# Altium footprint library KSZ8081RNAIA-TR.PcbLib: 3 footprints
Each footprint in its own frame and in the unit in brackets; x right, y up, seen from the top. Pads: shape width x height; smd on the part's side, far side on the other; paste and mask are expansions set on the pad; w line width, h text height; cw(c..) or ccw(c..) is an arc to the next point about the centre after c.
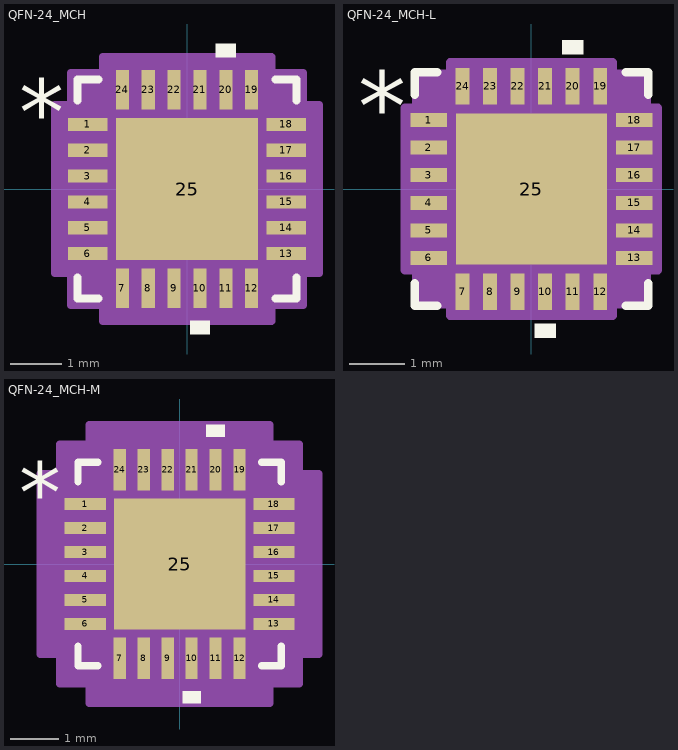
[diagram p0: the footprints below, top view; thin cyan lines are the x and y axes]

## QFN-24_MCH [mil]
pads (25):
  rect 30x10 smd paste+0 mask+0: 1(-75.5,49.21) 2(-75.5,29.53) 3(-75.5,9.84) 4(-75.5,-9.84) 5(-75.5,-29.53) 6(-75.5,-49.21) 13(75.5,-49.21) 14(75.5,-29.53) 15(75.5,-9.84) 16(75.5,9.84) 17(75.5,29.53) 18(75.5,49.21)
  rect 10x30 smd paste+0 mask+0: 7(-49.21,-75.5) 8(-29.53,-75.5) 9(-9.84,-75.5) 10(9.84,-75.5) 11(29.53,-75.5) 12(49.21,-75.5) 19(49.21,75.5) 20(29.53,75.5) 21(9.84,75.5) 22(-9.84,75.5) 23(-29.53,75.5) 24(-49.21,75.5)
  rect 108x108 smd paste-54 mask+0: 25(0,0)
Top Overlay:
  region: 17.34,-100.5 2.34,-100.5 2.34,-110.5 17.34,-110.5
  region: 37.03,100.5 22.03,100.5 22.03,110.5 37.03,110.5
  lines w6: -83.5,-67.31 -83.5,-83.5 -67.31,-83.5 ; -83.5,67.31 -83.5,83.5 -67.31,83.5 ; 67.31,-83.5 83.5,-83.5 83.5,-67.31 ; 67.31,83.5 83.5,83.5 83.5,67.31
  text "*" at -128,34.06 h50
Top Paste:
  region: -3.94,50.06 -50.06,50.06 -50.06,3.94 -3.94,3.94
  region: -3.94,-3.94 -50.06,-3.94 -50.06,-50.06 -3.94,-50.06
  region: 50.06,50.06 3.94,50.06 3.94,3.94 50.06,3.94
  region: 50.06,-3.94 3.94,-3.94 3.94,-50.06 50.06,-50.06
Mechanical 13:
  lines w1: -78.5,28.5 -28.5,78.5 ; -78.5,-78.5 78.5,-78.5 ; -78.5,-78.5 -78.5,78.5 ; -78.5,-78.5 -78.5,-78.5 ; -78.5,-55.21 -78.5,-43.21 ; -78.5,-55.21 -78.5,-43.21 ; -78.5,-55.21 -78.5,-55.21 ; -78.5,-43.21 -78.5,-43.21 ; -78.5,-35.53 -78.5,-23.53 ; -78.5,-35.53 -78.5,-23.53 ; -78.5,-35.53 -78.5,-35.53 ; -78.5,-23.53 -78.5,-23.53 ; -78.5,-15.84 -78.5,-3.84 ; -78.5,-15.84 -78.5,-3.84 ; -78.5,-15.84 -78.5,-15.84 ; -78.5,-3.84 -78.5,-3.84 ; -78.5,3.84 -78.5,15.84 ; -78.5,3.84 -78.5,15.84 ; -78.5,3.84 -78.5,3.84 ; -78.5,15.84 -78.5,15.84 ; -78.5,23.53 -78.5,35.53 ; -78.5,23.53 -78.5,35.53 ; -78.5,23.53 -78.5,23.53 ; -78.5,35.53 -78.5,35.53 ; -78.5,43.21 -78.5,55.21 ; -78.5,43.21 -78.5,55.21 ; -78.5,43.21 -78.5,43.21 ; -78.5,55.21 -78.5,55.21 ; -78.5,78.5 78.5,78.5 ; -78.5,78.5 -78.5,78.5 ; -55.21,-78.5 -43.21,-78.5 ; -55.21,-78.5 -55.21,-78.5 ; -55.21,-78.5 -43.21,-78.5 ; -55.21,78.5 -43.21,78.5 ; -55.21,78.5 -43.21,78.5 ; -55.21,78.5 -55.21,78.5 ; -43.21,-78.5 -43.21,-78.5 ; -43.21,78.5 -43.21,78.5 ; -35.53,-78.5 -23.53,-78.5 ; -35.53,-78.5 -35.53,-78.5 ; -35.53,-78.5 -23.53,-78.5 ; -35.53,78.5 -23.53,78.5 ; -35.53,78.5 -23.53,78.5 ; -35.53,78.5 -35.53,78.5 ; -23.53,-78.5 -23.53,-78.5 ; -23.53,78.5 -23.53,78.5 ; -15.84,-78.5 -3.84,-78.5 ; -15.84,-78.5 -15.84,-78.5 ; -15.84,-78.5 -3.84,-78.5 ; -15.84,78.5 -3.84,78.5 ; -15.84,78.5 -3.84,78.5 ; -15.84,78.5 -15.84,78.5 ; -3.84,-78.5 -3.84,-78.5 ; -3.84,78.5 -3.84,78.5 ; 3.84,-78.5 15.84,-78.5 ; 3.84,-78.5 3.84,-78.5 ; 3.84,-78.5 15.84,-78.5 ; 3.84,78.5 15.84,78.5 ; 3.84,78.5 15.84,78.5 ; 3.84,78.5 3.84,78.5 ; 15.84,-78.5 15.84,-78.5 ; 15.84,78.5 15.84,78.5 ; 23.53,-78.5 35.53,-78.5 ; 23.53,-78.5 23.53,-78.5 ; 23.53,-78.5 35.53,-78.5 ; 23.53,78.5 35.53,78.5 ; 23.53,78.5 35.53,78.5 ; 23.53,78.5 23.53,78.5 ; 35.53,-78.5 35.53,-78.5 ; 35.53,78.5 35.53,78.5 ; 43.21,-78.5 55.21,-78.5 ; 43.21,-78.5 43.21,-78.5 ; 43.21,-78.5 55.21,-78.5 ; 43.21,78.5 55.21,78.5 ; 43.21,78.5 55.21,78.5 ; 43.21,78.5 43.21,78.5 ; 55.21,-78.5 55.21,-78.5 ; 55.21,78.5 55.21,78.5 ; 78.5,-78.5 78.5,-78.5 ; 78.5,-78.5 78.5,78.5 ; 78.5,-55.21 78.5,-43.21 ; 78.5,-55.21 78.5,-55.21 ; 78.5,-55.21 78.5,-43.21 ; 78.5,-43.21 78.5,-43.21 ; 78.5,-35.53 78.5,-23.53 ; 78.5,-35.53 78.5,-35.53 ; 78.5,-35.53 78.5,-23.53 ; 78.5,-23.53 78.5,-23.53 ; 78.5,-15.84 78.5,-3.84 ; 78.5,-15.84 78.5,-15.84 ; 78.5,-15.84 78.5,-3.84 ; 78.5,-3.84 78.5,-3.84 ; 78.5,3.84 78.5,15.84 ; 78.5,3.84 78.5,3.84 ; 78.5,3.84 78.5,15.84 ; 78.5,15.84 78.5,15.84 ; 78.5,23.53 78.5,35.53 ; 78.5,23.53 78.5,23.53 ; 78.5,23.53 78.5,35.53 ; 78.5,35.53 78.5,35.53 ; 78.5,43.21 78.5,55.21 ; 78.5,43.21 78.5,43.21 ; 78.5,43.21 78.5,55.21 ; 78.5,55.21 78.5,55.21 ; 78.5,78.5 78.5,78.5
  text "*" at -73,34.06 h50
Mechanical 15:
  region: -64.21,-88.5 -88.5,-88.5 -88.5,-64.21 -100.5,-64.21 -100.5,64.21 -88.5,64.21 -88.5,88.5 -64.21,88.5 -64.21,100.5 64.21,100.5 64.21,88.5 88.5,88.5 88.5,64.21 100.5,64.21 100.5,-64.21 88.5,-64.21 88.5,-88.5 64.21,-88.5 64.21,-100.5 -64.21,-100.5
  lines w6: -100.5,-64.21 -88.5,-64.21 -88.5,-88.5 -64.21,-88.5 -64.21,-100.5 64.21,-100.5 64.21,-88.5 88.5,-88.5 88.5,-64.21 100.5,-64.21 100.5,64.21 88.5,64.21 88.5,88.5 64.21,88.5 64.21,100.5 -64.21,100.5 -64.21,88.5 -88.5,88.5 -88.5,64.21 -100.5,64.21 -100.5,-64.21
3D body "QFN-24_MCH.step": height 35.12, standoff 0, extent -78.5,-78.5 78.5,78.5

## QFN-24_MCH-L [mil]
pads (25):
  rect 26x10 smd paste+0 mask+0: 1(-73.5,49.21) 2(-73.5,29.53) 3(-73.5,9.84) 4(-73.5,-9.84) 5(-73.5,-29.53) 6(-73.5,-49.21) 13(73.5,-49.21) 14(73.5,-29.53) 15(73.5,-9.84) 16(73.5,9.84) 17(73.5,29.53) 18(73.5,49.21)
  rect 10x26 smd paste+0 mask+0: 7(-49.21,-73.5) 8(-29.53,-73.5) 9(-9.84,-73.5) 10(9.84,-73.5) 11(29.53,-73.5) 12(49.21,-73.5) 19(49.21,73.5) 20(29.53,73.5) 21(9.84,73.5) 22(-9.84,73.5) 23(-29.53,73.5) 24(-49.21,73.5)
  rect 108x108 smd paste-54 mask+0: 25(0,0)
Top Overlay:
  region: 17.34,-96.5 2.34,-96.5 2.34,-106.5 17.34,-106.5
  region: 37.03,96.5 22.03,96.5 22.03,106.5 37.03,106.5
  lines w6: -83.5,-67.31 -83.5,-83.5 -67.31,-83.5 ; -83.5,67.31 -83.5,83.5 -67.31,83.5 ; 67.31,-83.5 83.5,-83.5 83.5,-67.31 ; 67.31,83.5 83.5,83.5 83.5,67.31
  text "*" at -124,34.06 h50
Top Paste:
  region: -3.94,50.06 -50.06,50.06 -50.06,3.94 -3.94,3.94
  region: -3.94,-3.94 -50.06,-3.94 -50.06,-50.06 -3.94,-50.06
  region: 50.06,50.06 3.94,50.06 3.94,3.94 50.06,3.94
  region: 50.06,-3.94 3.94,-3.94 3.94,-50.06 50.06,-50.06
Mechanical 13:
  lines w1: -78.5,28.5 -28.5,78.5 ; -78.5,-78.5 78.5,-78.5 ; -78.5,-78.5 -78.5,78.5 ; -78.5,-78.5 -78.5,-78.5 ; -78.5,-55.21 -78.5,-43.21 ; -78.5,-55.21 -78.5,-43.21 ; -78.5,-55.21 -78.5,-55.21 ; -78.5,-43.21 -78.5,-43.21 ; -78.5,-35.53 -78.5,-23.53 ; -78.5,-35.53 -78.5,-23.53 ; -78.5,-35.53 -78.5,-35.53 ; -78.5,-23.53 -78.5,-23.53 ; -78.5,-15.84 -78.5,-3.84 ; -78.5,-15.84 -78.5,-3.84 ; -78.5,-15.84 -78.5,-15.84 ; -78.5,-3.84 -78.5,-3.84 ; -78.5,3.84 -78.5,15.84 ; -78.5,3.84 -78.5,15.84 ; -78.5,3.84 -78.5,3.84 ; -78.5,15.84 -78.5,15.84 ; -78.5,23.53 -78.5,35.53 ; -78.5,23.53 -78.5,35.53 ; -78.5,23.53 -78.5,23.53 ; -78.5,35.53 -78.5,35.53 ; -78.5,43.21 -78.5,55.21 ; -78.5,43.21 -78.5,55.21 ; -78.5,43.21 -78.5,43.21 ; -78.5,55.21 -78.5,55.21 ; -78.5,78.5 78.5,78.5 ; -78.5,78.5 -78.5,78.5 ; -55.21,-78.5 -43.21,-78.5 ; -55.21,-78.5 -55.21,-78.5 ; -55.21,-78.5 -43.21,-78.5 ; -55.21,78.5 -43.21,78.5 ; -55.21,78.5 -43.21,78.5 ; -55.21,78.5 -55.21,78.5 ; -43.21,-78.5 -43.21,-78.5 ; -43.21,78.5 -43.21,78.5 ; -35.53,-78.5 -23.53,-78.5 ; -35.53,-78.5 -35.53,-78.5 ; -35.53,-78.5 -23.53,-78.5 ; -35.53,78.5 -23.53,78.5 ; -35.53,78.5 -23.53,78.5 ; -35.53,78.5 -35.53,78.5 ; -23.53,-78.5 -23.53,-78.5 ; -23.53,78.5 -23.53,78.5 ; -15.84,-78.5 -3.84,-78.5 ; -15.84,-78.5 -15.84,-78.5 ; -15.84,-78.5 -3.84,-78.5 ; -15.84,78.5 -3.84,78.5 ; -15.84,78.5 -3.84,78.5 ; -15.84,78.5 -15.84,78.5 ; -3.84,-78.5 -3.84,-78.5 ; -3.84,78.5 -3.84,78.5 ; 3.84,-78.5 15.84,-78.5 ; 3.84,-78.5 3.84,-78.5 ; 3.84,-78.5 15.84,-78.5 ; 3.84,78.5 15.84,78.5 ; 3.84,78.5 15.84,78.5 ; 3.84,78.5 3.84,78.5 ; 15.84,-78.5 15.84,-78.5 ; 15.84,78.5 15.84,78.5 ; 23.53,-78.5 35.53,-78.5 ; 23.53,-78.5 23.53,-78.5 ; 23.53,-78.5 35.53,-78.5 ; 23.53,78.5 35.53,78.5 ; 23.53,78.5 35.53,78.5 ; 23.53,78.5 23.53,78.5 ; 35.53,-78.5 35.53,-78.5 ; 35.53,78.5 35.53,78.5 ; 43.21,-78.5 55.21,-78.5 ; 43.21,-78.5 43.21,-78.5 ; 43.21,-78.5 55.21,-78.5 ; 43.21,78.5 55.21,78.5 ; 43.21,78.5 55.21,78.5 ; 43.21,78.5 43.21,78.5 ; 55.21,-78.5 55.21,-78.5 ; 55.21,78.5 55.21,78.5 ; 78.5,-78.5 78.5,-78.5 ; 78.5,-78.5 78.5,78.5 ; 78.5,-55.21 78.5,-43.21 ; 78.5,-55.21 78.5,-55.21 ; 78.5,-55.21 78.5,-43.21 ; 78.5,-43.21 78.5,-43.21 ; 78.5,-35.53 78.5,-23.53 ; 78.5,-35.53 78.5,-35.53 ; 78.5,-35.53 78.5,-23.53 ; 78.5,-23.53 78.5,-23.53 ; 78.5,-15.84 78.5,-3.84 ; 78.5,-15.84 78.5,-15.84 ; 78.5,-15.84 78.5,-3.84 ; 78.5,-3.84 78.5,-3.84 ; 78.5,3.84 78.5,15.84 ; 78.5,3.84 78.5,3.84 ; 78.5,3.84 78.5,15.84 ; 78.5,15.84 78.5,15.84 ; 78.5,23.53 78.5,35.53 ; 78.5,23.53 78.5,23.53 ; 78.5,23.53 78.5,35.53 ; 78.5,35.53 78.5,35.53 ; 78.5,43.21 78.5,55.21 ; 78.5,43.21 78.5,43.21 ; 78.5,43.21 78.5,55.21 ; 78.5,55.21 78.5,55.21 ; 78.5,78.5 78.5,78.5
  text "*" at -73,34.06 h50
Mechanical 15:
  region: -58.21,-82.5 -82.5,-82.5 -82.5,-58.21 -90.5,-58.21 -90.5,58.21 -82.5,58.21 -82.5,82.5 -58.21,82.5 -58.21,90.5 58.21,90.5 58.21,82.5 82.5,82.5 82.5,58.21 90.5,58.21 90.5,-58.21 82.5,-58.21 82.5,-82.5 58.21,-82.5 58.21,-90.5 -58.21,-90.5
  lines w6: -90.5,-58.21 -82.5,-58.21 -82.5,-82.5 -58.21,-82.5 -58.21,-90.5 58.21,-90.5 58.21,-82.5 82.5,-82.5 82.5,-58.21 90.5,-58.21 90.5,58.21 82.5,58.21 82.5,82.5 58.21,82.5 58.21,90.5 -58.21,90.5 -58.21,82.5 -82.5,82.5 -82.5,58.21 -90.5,58.21 -90.5,-58.21
3D body "QFN-24_MCH.step": height 35.12, standoff 0, extent -78.5,-78.5 78.5,78.5

## QFN-24_MCH-M [mil]
pads (25):
  rect 34x10 smd paste+0 mask+0: 1(-77.5,49.21) 2(-77.5,29.53) 3(-77.5,9.84) 4(-77.5,-9.84) 5(-77.5,-29.53) 6(-77.5,-49.21) 13(77.5,-49.21) 14(77.5,-29.53) 15(77.5,-9.84) 16(77.5,9.84) 17(77.5,29.53) 18(77.5,49.21)
  rect 10x34 smd paste+0 mask+0: 7(-49.21,-77.5) 8(-29.53,-77.5) 9(-9.84,-77.5) 10(9.84,-77.5) 11(29.53,-77.5) 12(49.21,-77.5) 19(49.21,77.5) 20(29.53,77.5) 21(9.84,77.5) 22(-9.84,77.5) 23(-29.53,77.5) 24(-49.21,77.5)
  rect 108x108 smd paste-54 mask+0: 25(0,0)
Top Overlay:
  region: 17.34,-104.5 2.34,-104.5 2.34,-114.5 17.34,-114.5
  region: 37.03,104.5 22.03,104.5 22.03,114.5 37.03,114.5
  lines w6: -83.5,-67.31 -83.5,-83.5 -67.31,-83.5 ; -83.5,67.31 -83.5,83.5 -67.31,83.5 ; 67.31,-83.5 83.5,-83.5 83.5,-67.31 ; 67.31,83.5 83.5,83.5 83.5,67.31
  text "*" at -132,34.06 h50
Top Paste:
  region: -3.94,50.06 -50.06,50.06 -50.06,3.94 -3.94,3.94
  region: -3.94,-3.94 -50.06,-3.94 -50.06,-50.06 -3.94,-50.06
  region: 50.06,50.06 3.94,50.06 3.94,3.94 50.06,3.94
  region: 50.06,-3.94 3.94,-3.94 3.94,-50.06 50.06,-50.06
Mechanical 13:
  lines w1: -78.5,28.5 -28.5,78.5 ; -78.5,-78.5 78.5,-78.5 ; -78.5,-78.5 -78.5,78.5 ; -78.5,-78.5 -78.5,-78.5 ; -78.5,-55.21 -78.5,-43.21 ; -78.5,-55.21 -78.5,-43.21 ; -78.5,-55.21 -78.5,-55.21 ; -78.5,-43.21 -78.5,-43.21 ; -78.5,-35.53 -78.5,-23.53 ; -78.5,-35.53 -78.5,-23.53 ; -78.5,-35.53 -78.5,-35.53 ; -78.5,-23.53 -78.5,-23.53 ; -78.5,-15.84 -78.5,-3.84 ; -78.5,-15.84 -78.5,-3.84 ; -78.5,-15.84 -78.5,-15.84 ; -78.5,-3.84 -78.5,-3.84 ; -78.5,3.84 -78.5,15.84 ; -78.5,3.84 -78.5,15.84 ; -78.5,3.84 -78.5,3.84 ; -78.5,15.84 -78.5,15.84 ; -78.5,23.53 -78.5,35.53 ; -78.5,23.53 -78.5,35.53 ; -78.5,23.53 -78.5,23.53 ; -78.5,35.53 -78.5,35.53 ; -78.5,43.21 -78.5,55.21 ; -78.5,43.21 -78.5,55.21 ; -78.5,43.21 -78.5,43.21 ; -78.5,55.21 -78.5,55.21 ; -78.5,78.5 78.5,78.5 ; -78.5,78.5 -78.5,78.5 ; -55.21,-78.5 -43.21,-78.5 ; -55.21,-78.5 -55.21,-78.5 ; -55.21,-78.5 -43.21,-78.5 ; -55.21,78.5 -43.21,78.5 ; -55.21,78.5 -43.21,78.5 ; -55.21,78.5 -55.21,78.5 ; -43.21,-78.5 -43.21,-78.5 ; -43.21,78.5 -43.21,78.5 ; -35.53,-78.5 -23.53,-78.5 ; -35.53,-78.5 -35.53,-78.5 ; -35.53,-78.5 -23.53,-78.5 ; -35.53,78.5 -23.53,78.5 ; -35.53,78.5 -23.53,78.5 ; -35.53,78.5 -35.53,78.5 ; -23.53,-78.5 -23.53,-78.5 ; -23.53,78.5 -23.53,78.5 ; -15.84,-78.5 -3.84,-78.5 ; -15.84,-78.5 -15.84,-78.5 ; -15.84,-78.5 -3.84,-78.5 ; -15.84,78.5 -3.84,78.5 ; -15.84,78.5 -3.84,78.5 ; -15.84,78.5 -15.84,78.5 ; -3.84,-78.5 -3.84,-78.5 ; -3.84,78.5 -3.84,78.5 ; 3.84,-78.5 15.84,-78.5 ; 3.84,-78.5 3.84,-78.5 ; 3.84,-78.5 15.84,-78.5 ; 3.84,78.5 15.84,78.5 ; 3.84,78.5 15.84,78.5 ; 3.84,78.5 3.84,78.5 ; 15.84,-78.5 15.84,-78.5 ; 15.84,78.5 15.84,78.5 ; 23.53,-78.5 35.53,-78.5 ; 23.53,-78.5 23.53,-78.5 ; 23.53,-78.5 35.53,-78.5 ; 23.53,78.5 35.53,78.5 ; 23.53,78.5 35.53,78.5 ; 23.53,78.5 23.53,78.5 ; 35.53,-78.5 35.53,-78.5 ; 35.53,78.5 35.53,78.5 ; 43.21,-78.5 55.21,-78.5 ; 43.21,-78.5 43.21,-78.5 ; 43.21,-78.5 55.21,-78.5 ; 43.21,78.5 55.21,78.5 ; 43.21,78.5 55.21,78.5 ; 43.21,78.5 43.21,78.5 ; 55.21,-78.5 55.21,-78.5 ; 55.21,78.5 55.21,78.5 ; 78.5,-78.5 78.5,-78.5 ; 78.5,-78.5 78.5,78.5 ; 78.5,-55.21 78.5,-43.21 ; 78.5,-55.21 78.5,-55.21 ; 78.5,-55.21 78.5,-43.21 ; 78.5,-43.21 78.5,-43.21 ; 78.5,-35.53 78.5,-23.53 ; 78.5,-35.53 78.5,-35.53 ; 78.5,-35.53 78.5,-23.53 ; 78.5,-23.53 78.5,-23.53 ; 78.5,-15.84 78.5,-3.84 ; 78.5,-15.84 78.5,-15.84 ; 78.5,-15.84 78.5,-3.84 ; 78.5,-3.84 78.5,-3.84 ; 78.5,3.84 78.5,15.84 ; 78.5,3.84 78.5,3.84 ; 78.5,3.84 78.5,15.84 ; 78.5,15.84 78.5,15.84 ; 78.5,23.53 78.5,35.53 ; 78.5,23.53 78.5,23.53 ; 78.5,23.53 78.5,35.53 ; 78.5,35.53 78.5,35.53 ; 78.5,43.21 78.5,55.21 ; 78.5,43.21 78.5,43.21 ; 78.5,43.21 78.5,55.21 ; 78.5,55.21 78.5,55.21 ; 78.5,78.5 78.5,78.5
  text "*" at -73,34.06 h50
Mechanical 15:
  region: -74.21,-98.5 -98.5,-98.5 -98.5,-74.21 -114.5,-74.21 -114.5,74.21 -98.5,74.21 -98.5,98.5 -74.21,98.5 -74.21,114.5 74.21,114.5 74.21,98.5 98.5,98.5 98.5,74.21 114.5,74.21 114.5,-74.21 98.5,-74.21 98.5,-98.5 74.21,-98.5 74.21,-114.5 -74.21,-114.5
  lines w6: -114.5,-74.21 -98.5,-74.21 -98.5,-98.5 -74.21,-98.5 -74.21,-114.5 74.21,-114.5 74.21,-98.5 98.5,-98.5 98.5,-74.21 114.5,-74.21 114.5,74.21 98.5,74.21 98.5,98.5 74.21,98.5 74.21,114.5 -74.21,114.5 -74.21,98.5 -98.5,98.5 -98.5,74.21 -114.5,74.21 -114.5,-74.21
3D body "QFN-24_MCH.step": height 35.12, standoff 0, extent -78.5,-78.5 78.5,78.5